# Altium footprint library microUSB.PcbLib: 1 footprints
Each footprint in its own frame and in the unit in brackets; x right, y up, seen from the top. Pads: shape width x height; smd on the part's side, far side on the other; paste and mask are expansions set on the pad; w line width, h text height; cw(c..) or ccw(c..) is an arc to the next point about the centre after c.
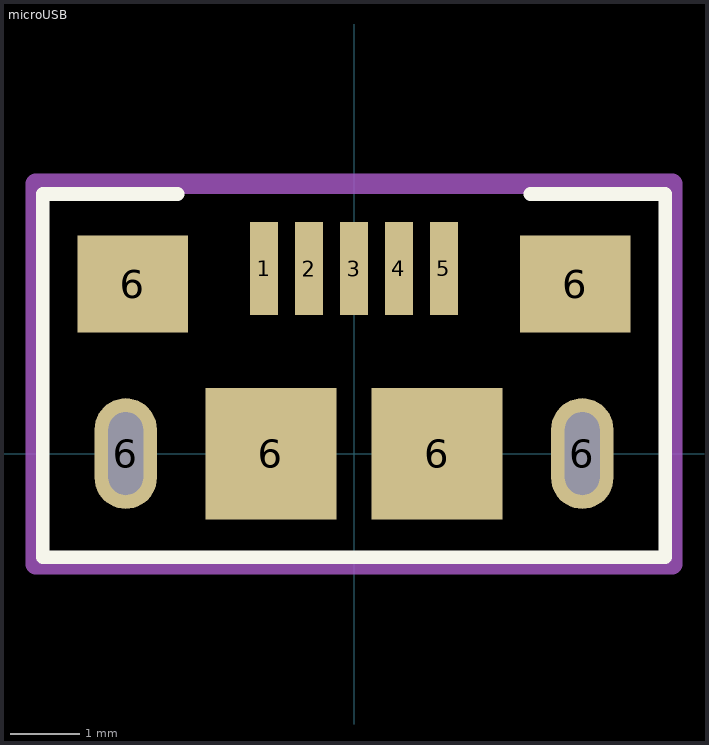
[diagram p0: the footprint, top view; thin cyan lines are the x and y axes]

## microUSB [mm]
pads (11):
  rect 0.4x1.35 smd: 1(-1.3,2.675) 2(-0.65,2.675) 3(0,2.675) 4(0.65,2.675) 5(1.3,2.675)
  oval 0.9x1.6 hole 0.5 slot 1.2 at 90 deg: 6(-3.3,0) 6(3.3,0)
  rect 1.6x1.4 smd: 6(-3.2,2.45) 6(3.2,2.45)
  rect 1.9x1.9 smd: 6(-1.2,0) 6(1.2,0)
Top Overlay:
  lines w0.2: -2.55,3.75 -4.5,3.75 -4.5,-1.5 4.5,-1.5 4.5,3.75 2.55,3.75
Mechanical 15:
  lines w0.3: -4.6,-1.6 -4.6,3.9 4.6,3.9 4.6,-1.6 -4.6,-1.6
  text ".Designator" at 0,1.3 h0.7
3D body "USB3090-30-A_revE.step": height 2.59, standoff -1, extent -3.891,-2.565 3.892,2.925